# Altium footprint library PcbLib1.PcbLib: 6 footprints
Each footprint in its own frame and in the unit in brackets; x right, y up, seen from the top. Pads: shape width x height; smd on the part's side, far side on the other; paste and mask are expansions set on the pad; w line width, h text height; cw(c..) or ccw(c..) is an arc to the next point about the centre after c.
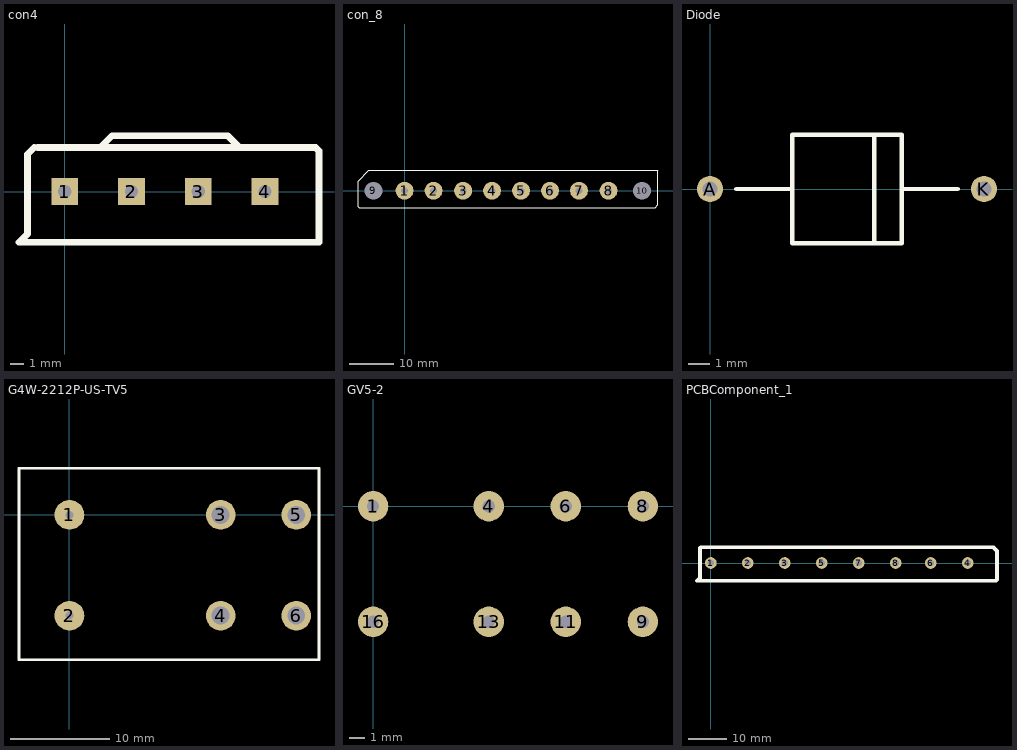
[diagram p0: the footprints below, top view; thin cyan lines are the x and y axes]

## con4 [mm]
pads (4):
  rect 2x2 / inner round 4 / far side round 1.524 hole 1 square: 1(0,0) 2(5,0) 3(10,0) 4(15,0)
Top Overlay:
  lines w0.5: -2.286,3.302 -2.794,2.794 -2.794,-3.175 -3.429,-3.81 19.05,-3.81 19.05,3.048 18.796,3.302 -2.032,3.302 ; 2.667,3.302 3.556,4.191 12.192,4.191 13.081,3.302

## con_8 [mm]
pads (10):
  round 4 / inner round 4 / far side round 1.524 hole 1.5: 1(0,0) 2(6.477,0) 3(13.081,0) 4(19.558,0) 5(26.035,0) 6(32.512,0) 7(38.989,0) 8(45.593,0)
  round 3 / inner round 4 / far side round 1.524 hole 4: 9(-6.985,0) 10(53.086,0)
Top Overlay:
  lines w0.254: -10.414,-3.556 -10.16,-3.81 56.007,-3.81 56.642,-3.175 56.642,4.445 56.515,4.572 -8.001,4.572 -10.414,2.159 -10.414,-3.556

## Diode [mm]
pads (2):
  round 1.2 hole 0.7: A(0,0) K(12.6,0)
Top Overlay:
  lines w0.2: 1.2,0 3.775,0 ; 7.558,-2.5 7.558,2.5 ; 8.825,0 11.4,0 ; 3.775,0 3.775,2.5 8.825,2.5 8.825,-2.5 3.775,-2.5 3.775,0

## G4W-2212P-US-TV5 [mm]
pads (6):
  round 3 / inner round 4 / far side round 1.524 hole 0.8 square: 1(0,0) 2(0,-10.16)
  round 3 / inner round 4 / far side round 1.524 hole 1.8 square: 3(15.24,0) 4(15.24,-10.16) 5(22.86,0) 6(22.86,-10.16)
Top Overlay:
  lines w0.254: -0.762,4.699 25.146,4.699 25.146,-14.605 -5.08,-14.605 -5.08,4.699 0.635,4.699

## GV5-2 [mm]
pads (8):
  round 2 / inner round 4 / far side round 1.524 hole 0.8: 1(0,0) 4(7.62,0) 6(12.7,0) 8(17.78,0) 9(17.78,-7.62) 11(12.7,-7.62) 13(7.62,-7.62) 16(0,-7.62)

## PCBComponent_1 [mm]
pads (8):
  round 3 / inner round 4 / far side round 1.524 hole 1.6: 1(0,0) 2(9.5,0) 3(19,0) 4(66,0) 5(28.5,0) 6(56.5,0) 7(38,0) 8(47.5,0)
Top Overlay:
  lines w1: -2.794,3.81 -2.794,-3.81 -3.556,-4.572 73.152,-4.572 73.533,-4.191 73.533,3.048 72.517,4.064 -2.54,4.064